# Altium integrated library 1043.IntLib: 1 symbol
Pins are listed as number, name and electrical type; pins without a type are passive.

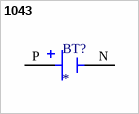
[diagram p0: symbol 1043]

## 1043
designator BT?
MP: 1043; Price: None; Availability: Unavailable; Value: *; Package: None
footprint BAT_1043
pins: N NEG, P POS